# Altium integrated library IRF9540NSTRLPBF (1).IntLib: 1 symbol
Pins are listed as number, name and electrical type; pins without a type are passive.

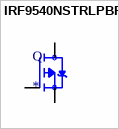
[diagram p0: symbol IRF9540NSTRLPBF]

## IRF9540NSTRLPBF
designator Q
RoHS Compliant | Low RDS_on_ | Industry-leading quality | Dynamic dv/dt Rating | Fast Switching | Fully Avalanche Rated | 175C Operating Temperature | P-Channel MOSFET; MP: IRF9540NSTRLPBF; MF: Infineon; Availability: Unavailable; SnapEDA_Link: https://www.snapeda.com/parts/IRF9540NSTRLPBF/Infineon%20Technologies/view-part/565416/?ref=snap; Price: None; Value: *; Package: D2PAK Infineon
footprint DPAK254P1524X483-4_3N
pins: 1 G, 3 S, 4 D